# EAGLE library part STX3 (library STX3)
GlobalStar STX3 Satellite Transmitter Module
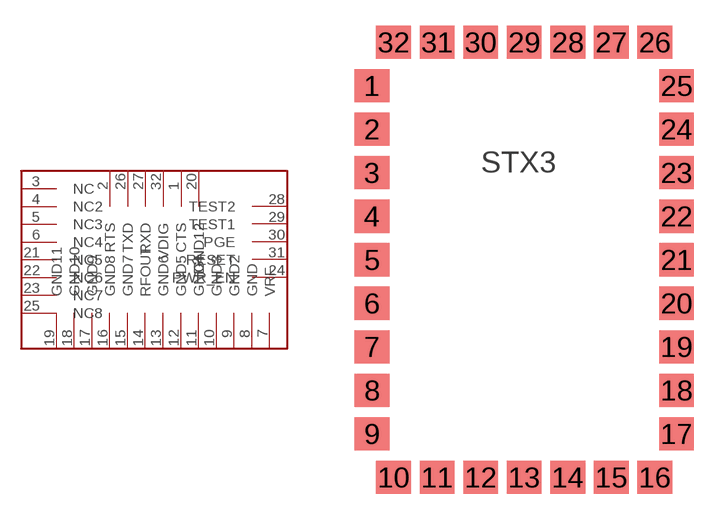
[diagram p0: symbol with the pads of STX3; footprint STX3]

Designator prefix -

## STX3  [STX3]
1  CTS
2  RTS
3  NC
4  NC2
5  NC3
6  NC4
7  VRF
8  GND
9  GND2
10  GND3
11  GND4
12  GND5
13  GND6
14  RFOUT
15  GND7
16  GND8
17  GND9
18  GND10
19  GND11
20  GND12
21  NC5
22  NC6
23  NC7
24  PWR_EN
25  NC8
26  TXD
27  RXD
28  TEST2
29  TEST1
30  PGE
31  RESET
32  VDIG

## Footprint STX3 (pad centres in mm)
smd 2.032 x 1.93: 1 -8.89,10.16; 2 -8.89,7.62; 3 -8.89,5.08; 4 -8.89,2.54; 5 -8.89,0; 6 -8.89,-2.54; 7 -8.89,-5.08; 8 -8.89,-7.62; 9 -8.89,-10.16; 10 -7.62,-12.7; 11 -5.08,-12.7; 12 -2.54,-12.7; 13 0,-12.7; 14 2.54,-12.7; 15 5.08,-12.7; 16 7.62,-12.7; 17 8.89,-10.16; 18 8.89,-7.62; 19 8.89,-5.08; 20 8.89,-2.54; 21 8.89,0; 22 8.89,2.54; 23 8.89,5.08; 24 8.89,7.62; 25 8.89,10.16; 26 7.62,12.7; 27 5.08,12.7; 28 2.54,12.7; 29 0,12.7; 30 -2.54,12.7; 31 -5.08,12.7; 32 -7.62,12.7